# EAGLE library part ATMEGA8 (library Arduino-AVR)
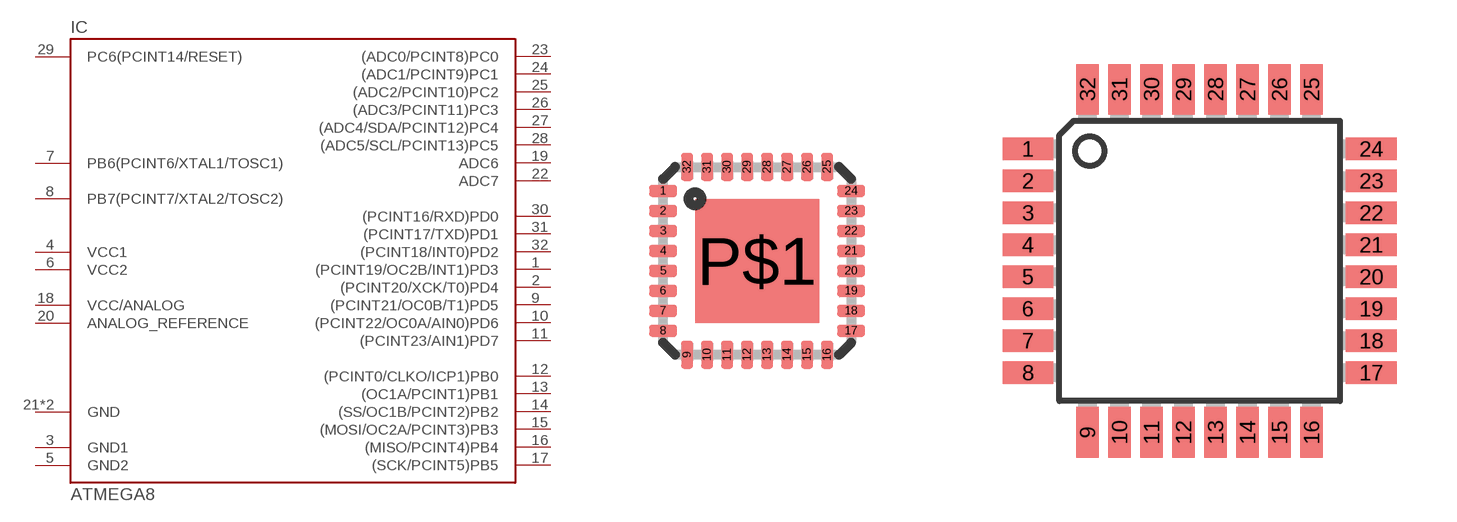
[diagram p0: symbol with the pads of MLF32; footprints MLF32, TQFP32-08]

Designator prefix IC

## ATMEGA8-MU  [MLF32]
1  (PCINT19/OC2B/INT1)PD3
2  (PCINT20/XCK/T0)PD4
3  GND1  pwr
4  VCC1  pwr
5  GND2  pwr
6  VCC2  pwr
7  PB6(PCINT6/XTAL1/TOSC1)
8  PB7(PCINT7/XTAL2/TOSC2)
9  (PCINT21/OC0B/T1)PD5
10  (PCINT22/OC0A/AIN0)PD6
11  (PCINT23/AIN1)PD7
12  (PCINT0/CLKO/ICP1)PB0
13  (OC1A/PCINT1)PB1
14  (SS/OC1B/PCINT2)PB2
15  (MOSI/OC2A/PCINT3)PB3
16  (MISO/PCINT4)PB4
17  (SCK/PCINT5)PB5
18  VCC/ANALOG  pas
19  ADC6  pas
20  ANALOG_REFERENCE  pas
21  GND  pwr
22  ADC7  pas
23  (ADC0/PCINT8)PC0
24  (ADC1/PCINT9)PC1
25  (ADC2/PCINT10)PC2
26  (ADC3/PCINT11)PC3
27  (ADC4/SDA/PCINT12)PC4
28  (ADC5/SCL/PCINT13)PC5
29  PC6(PCINT14/RESET)
30  (PCINT16/RXD)PD0
31  (PCINT17/TXD)PD1
32  (PCINT18/INT0)PD2
P$1  GND  pwr

## ATMEGA8-AU  [TQFP32-08]
1  (PCINT19/OC2B/INT1)PD3
2  (PCINT20/XCK/T0)PD4
3  GND1  pwr
4  VCC1  pwr
5  GND2  pwr
6  VCC2  pwr
7  PB6(PCINT6/XTAL1/TOSC1)
8  PB7(PCINT7/XTAL2/TOSC2)
9  (PCINT21/OC0B/T1)PD5
10  (PCINT22/OC0A/AIN0)PD6
11  (PCINT23/AIN1)PD7
12  (PCINT0/CLKO/ICP1)PB0
13  (OC1A/PCINT1)PB1
14  (SS/OC1B/PCINT2)PB2
15  (MOSI/OC2A/PCINT3)PB3
16  (MISO/PCINT4)PB4
17  (SCK/PCINT5)PB5
18  VCC/ANALOG  pas
19  ADC6  pas
20  ANALOG_REFERENCE  pas
21  GND  pwr
22  ADC7  pas
23  (ADC0/PCINT8)PC0
24  (ADC1/PCINT9)PC1
25  (ADC2/PCINT10)PC2
26  (ADC3/PCINT11)PC3
27  (ADC4/SDA/PCINT12)PC4
28  (ADC5/SCL/PCINT13)PC5
29  PC6(PCINT14/RESET)
30  (PCINT16/RXD)PD0
31  (PCINT17/TXD)PD1
32  (PCINT18/INT0)PD2

## Footprint MLF32 (pad centres in mm)
32M1-A Micro Lead Frame package (MLF)
smd 0.7 x 0.3: 1 -2.35,1.75; 2 -2.35,1.25; 3 -2.35,0.75; 4 -2.35,0.25; 5 -2.35,-0.25; 6 -2.35,-0.75; 7 -2.35,-1.25; 8 -2.35,-1.75; 17 2.35,-1.75; 18 2.35,-1.25; 19 2.35,-0.75; 20 2.35,-0.25; 21 2.35,0.25; 22 2.35,0.75; 23 2.35,1.25; 24 2.35,1.75
smd 0.3 x 0.7: 9 -1.75,-2.35; 10 -1.25,-2.35; 11 -0.75,-2.35; 12 -0.25,-2.35; 13 0.25,-2.35; 14 0.75,-2.35; 15 1.25,-2.35; 16 1.75,-2.35; 25 1.75,2.35; 26 1.25,2.35; 27 0.75,2.35; 28 0.25,2.35; 29 -0.25,2.35; 30 -0.75,2.35; 31 -1.25,2.35; 32 -1.75,2.35
smd 3.1 x 3.1: P$1 0,0

## Footprint TQFP32-08 (pad centres in mm)
Thin Plasic Quad Flat Package Grid 0.8 mm
smd 1.27 x 0.559: 1 -4.293,2.8; 2 -4.293,2; 3 -4.293,1.2; 4 -4.293,0.4; 5 -4.293,-0.4; 6 -4.293,-1.2; 7 -4.293,-2; 8 -4.293,-2.8; 17 4.293,-2.8; 18 4.293,-2; 19 4.293,-1.2; 20 4.293,-0.4; 21 4.293,0.4; 22 4.293,1.2; 23 4.293,2; 24 4.293,2.8
smd 0.559 x 1.27: 9 -2.8,-4.293; 10 -2,-4.293; 11 -1.2,-4.293; 12 -0.4,-4.293; 13 0.4,-4.293; 14 1.2,-4.293; 15 2,-4.293; 16 2.8,-4.293; 25 2.8,4.293; 26 2,4.293; 27 1.2,4.293; 28 0.4,4.293; 29 -0.4,4.293; 30 -1.2,4.293; 31 -2,4.293; 32 -2.8,4.293